# Altium schematic symbol library LED_8PIN_BLU81_GRN72_RED63_WHT54.SchLib: 1 symbol
Pins are listed as number, name and electrical type; pins without a type are passive.

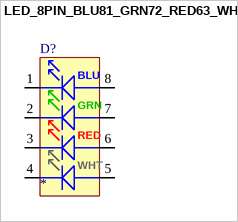
[diagram p0: symbol LED_8PIN_BLU81_GRN72_RED63_WHT54]

## LED_8PIN_BLU81_GRN72_RED63_WHT54
designator D?
pins: 1 BC, 2 GC, 3 RC, 4 WC, 5 WA, 6 RA, 7 GA, 8 BA
text: BLU; GRN; RED; WHT